# Altium schematic symbol library SC18IS602.Schlib: 1 symbol
Pins are listed as number, name and electrical type; pins without a type are passive.

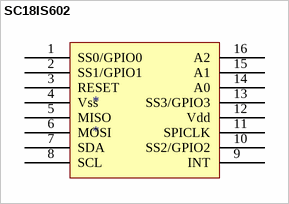
[diagram p0: symbol SC18IS602]

## SC18IS602
designator *
pins: 1 SS0/GPIO0, 2 SS1/GPIO1, 3 RESET, 4 Vss, 5 MISO, 6 MOSI, 7 SDA, 8 SCL, 9 INT, 10 SS2/GPIO2, 11 SPICLK, 12 Vdd, 13 SS3/GPIO3, 14 A0, 15 A1, 16 A2